# Altium footprint library Loggerhead.PcbLib: 175 footprints (part 4 of 11)
Each footprint in its own frame and in the unit in brackets; x right, y up, seen from the top. Pads: shape width x height; smd on the part's side, far side on the other; paste and mask are expansions set on the pad; w line width, h text height; cw(c..) or ccw(c..) is an arc to the next point about the centre after c.
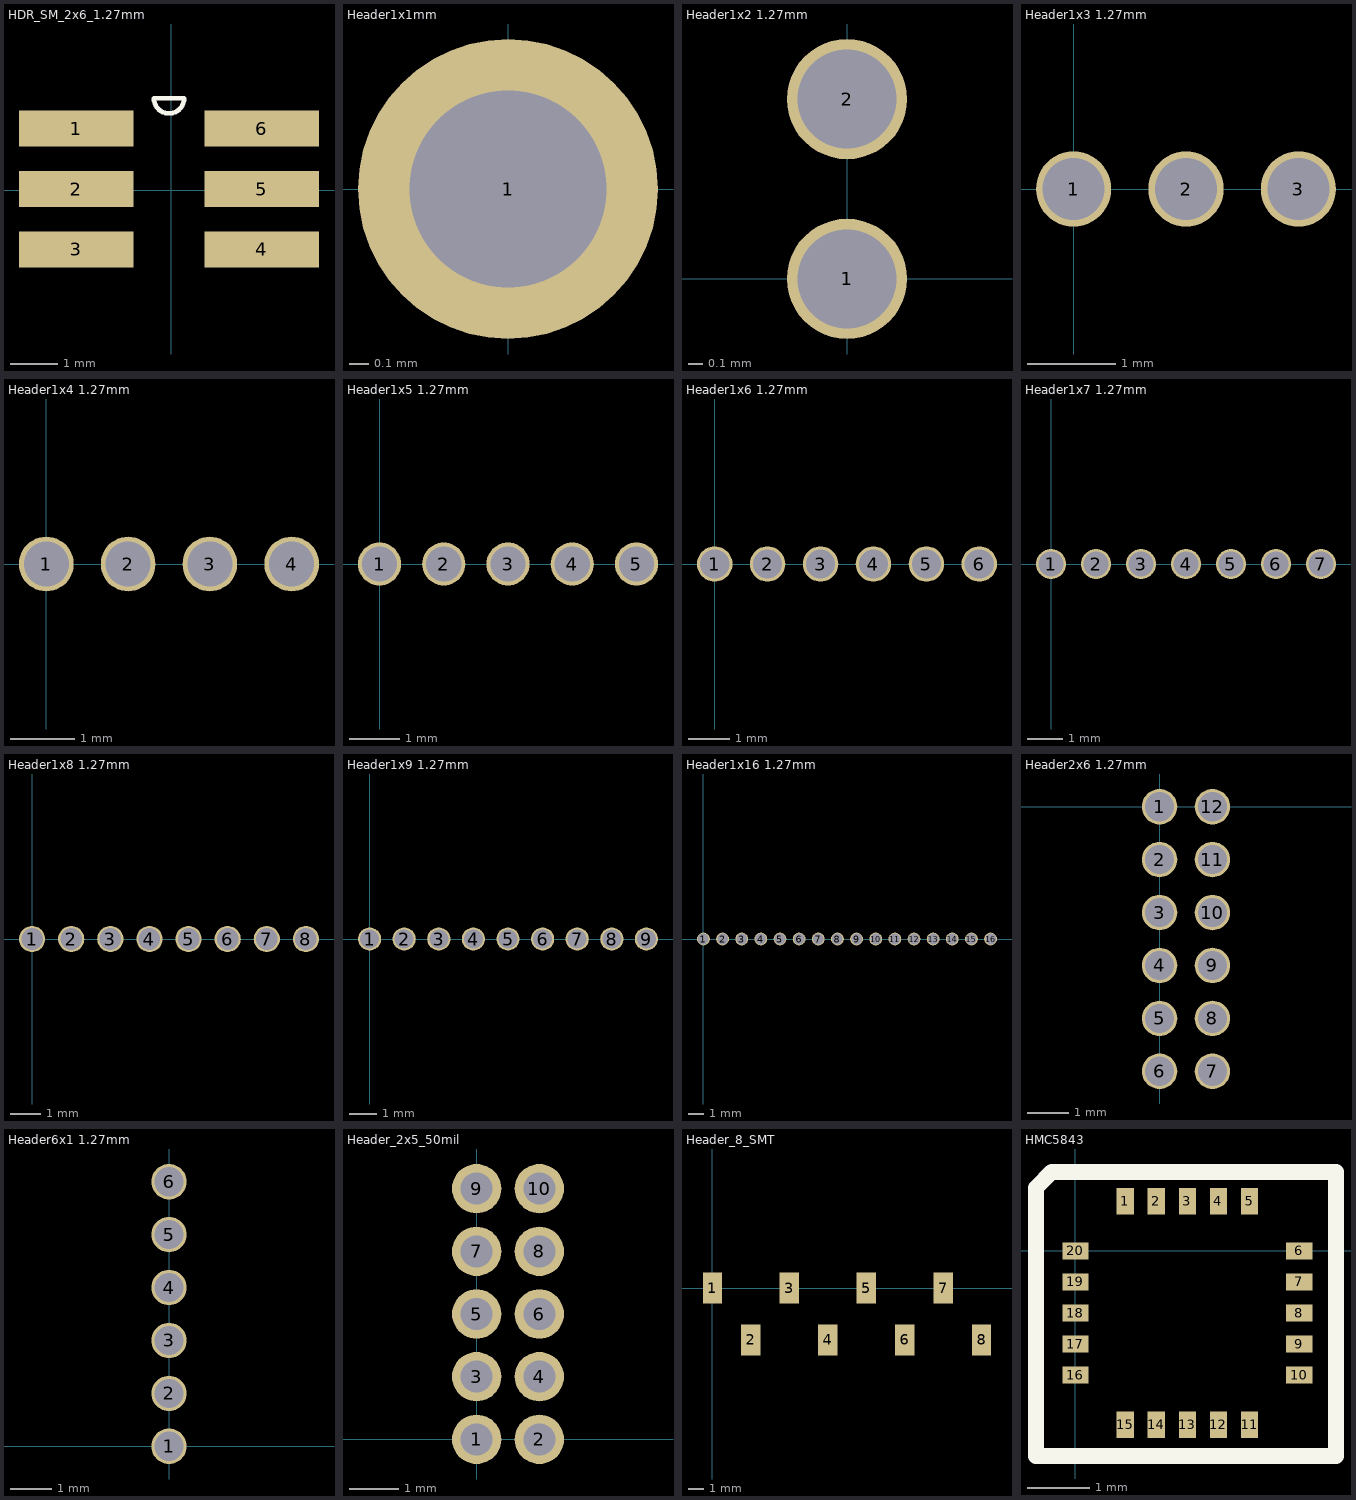
[diagram p3: the footprints below, top view; thin cyan lines are the x and y axes]

## HDR_SM_2x6_1.27mm [mm]
pads (6):
  rect 2.4x0.76 smd: 1(-2,1.3) 2(-2,0.03) 3(-2,-1.24) 4(1.9,-1.24) 5(1.9,0.03) 6(1.9,1.3)
Top Overlay:
  lines w0.1: -0.065,1.935 -0.367,1.935 ccw(c-0.05,1.935) 0.268,1.935 -0.035,1.935

## Header1x1mm [mil]
pads (1):
  round 60 hole 39.37: 1(0,0)

## Header1x2 1.27mm [mm]
pads (2):
  round 0.85 hole 0.7: 1(0,0) 2(0,1.27)

## Header1x3 1.27mm [mm]
pads (3):
  round 0.85 hole 0.7: 1(0,0) 2(1.27,0) 3(2.54,0)

## Header1x4 1.27mm [mm]
pads (4):
  round 0.85 hole 0.7: 1(0,0) 2(1.27,0) 3(2.54,0) 4(3.81,0)

## Header1x5 1.27mm [mm]
pads (5):
  round 0.85 hole 0.7: 1(0,0) 2(1.27,0) 3(2.54,0) 4(3.81,0) 5(5.08,0)

## Header1x6 1.27mm [mm]
pads (6):
  round 0.85 hole 0.7: 1(0,0) 2(1.27,0) 3(2.54,0) 4(3.81,0) 5(5.08,0) 6(6.35,0)

## Header1x7 1.27mm [mm]
pads (7):
  round 0.85 hole 0.7: 1(0,0) 2(1.27,0) 3(2.54,0) 4(3.81,0) 5(5.08,0) 6(6.35,0) 7(7.62,0)

## Header1x8 1.27mm [mm]
pads (8):
  round 0.85 hole 0.7: 1(0,0) 2(1.27,0) 3(2.54,0) 4(3.81,0) 5(5.08,0) 6(6.35,0) 7(7.62,0) 8(8.89,0)

## Header1x9 1.27mm [mm]
pads (9):
  round 0.85 hole 0.7: 1(0,0) 2(1.27,0) 3(2.54,0) 4(3.81,0) 5(5.08,0) 6(6.35,0) 7(7.62,0) 8(8.89,0) 9(10.16,0)

## Header1x16 1.27mm [mm]
pads (16):
  round 0.85 hole 0.7: 1(0,0) 2(1.27,0) 3(2.54,0) 4(3.81,0) 5(5.08,0) 6(6.35,0) 7(7.62,0) 8(8.89,0) 9(10.16,0) 10(11.43,0) 11(12.7,0) 12(13.97,0) 13(15.24,0) 14(16.51,0) 15(17.78,0) 16(19.05,0)

## Header2x6 1.27mm [mm]
pads (12):
  round 0.85 hole 0.7: 1(0,0) 2(0,-1.27) 3(0,-2.54) 4(0,-3.81) 5(0,-5.08) 6(0,-6.35) 7(1.27,-6.35) 8(1.27,-5.08) 9(1.27,-3.81) 10(1.27,-2.54) 11(1.27,-1.27) 12(1.27,0)

## Header6x1 1.27mm [mm]
pads (6):
  round 0.85 hole 0.7: 1(0,0) 2(0,1.27) 3(0,2.54) 4(0,3.81) 5(0,5.08) 6(0,6.35)

## Header_2x5_50mil [mm]
pads (10):
  round 1 hole 0.65: 1(0,0) 2(1.27,0) 3(0,1.27) 4(1.27,1.27) 5(0,2.54) 6(1.27,2.54) 7(0,3.81) 8(1.27,3.81) 9(0,5.08) 10(1.27,5.08)

## Header_8_SMT [mil] "Amphenol  10129380-908001BLF"
pads (8):
  rect 50x80 smd: 1(0,0) 2(100,-135) 3(200,0) 4(300,-135) 5(400,0) 6(500,-135) 7(600,0) 8(700,-135)

## HMC5843 [mm] "Compass"
height 1.3
pads (20):
  rect 0.275x0.425 smd: 1(0.8,0.8) 2(1.3,0.8) 3(1.8,0.8) 4(2.3,0.8) 5(2.8,0.8) 11(2.8,-2.8) 12(2.3,-2.8) 13(1.8,-2.8) 14(1.3,-2.8) 15(0.8,-2.8)
  rect 0.425x0.275 smd: 6(3.6,0) 7(3.6,-0.5) 8(3.6,-1) 9(3.6,-1.5) 10(3.6,-2) 16(0,-2) 17(0,-1.5) 18(0,-1) 19(0,-0.5) 20(0,0)
Top Overlay:
  lines w0.254: -0.635,-3.302 4.191,-3.302 4.191,1.27 -0.381,1.27 -0.635,1.016 -0.635,-3.302